# Altium footprint library PCB封装.PcbLib: 59 footprints (part 3 of 4)
Each footprint in its own frame and in the unit in brackets; x right, y up, seen from the top. Pads: shape width x height; smd on the part's side, far side on the other; paste and mask are expansions set on the pad; w line width, h text height; cw(c..) or ccw(c..) is an arc to the next point about the centre after c.
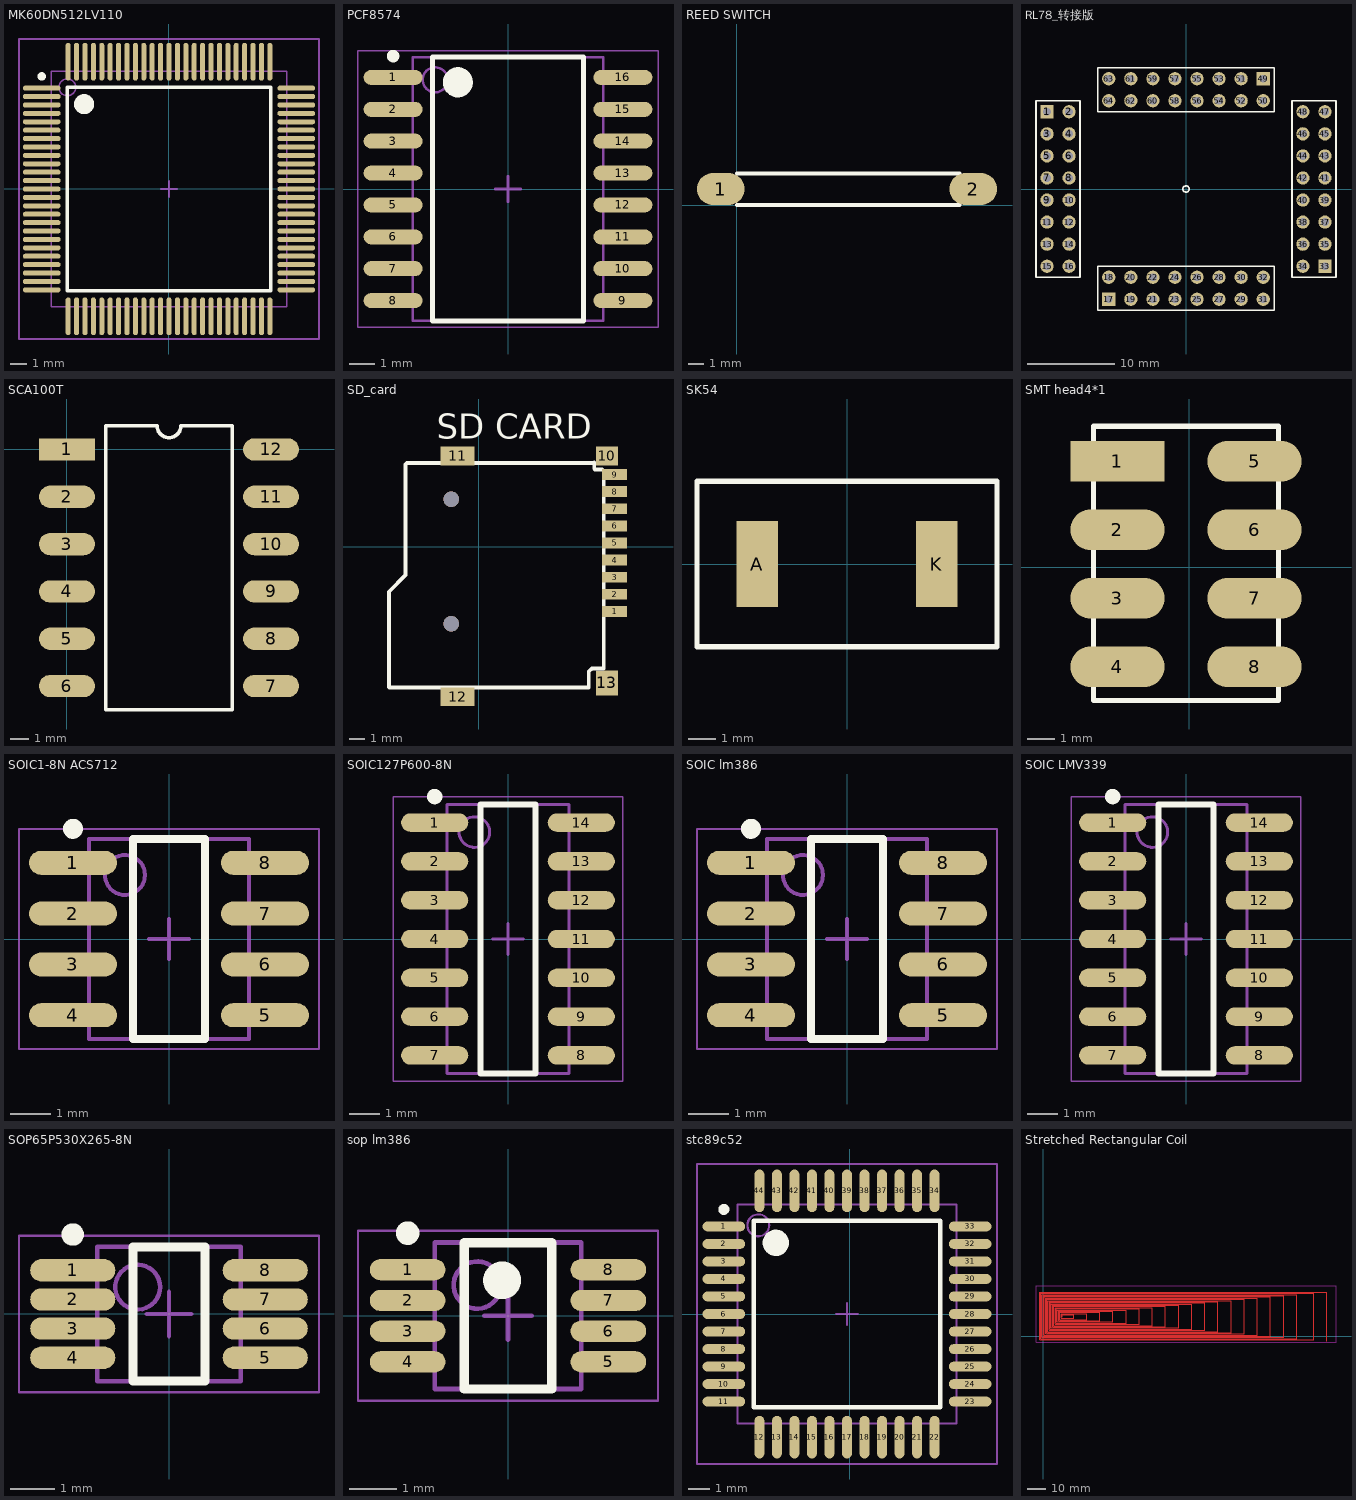
[diagram p2: the footprints below, top view; thin cyan lines are the x and y axes]

## MK60DN512LV110 [mm]
pads (100):
  oval 2.25x0.3 smd: 1(-7.575,6) 2(-7.575,5.5) 3(-7.575,5) 4(-7.575,4.5) 5(-7.575,4) 6(-7.575,3.5) 7(-7.575,3) 8(-7.575,2.5) 9(-7.575,2) 10(-7.575,1.5) 11(-7.575,1) 12(-7.575,0.5) 13(-7.575,0) 14(-7.575,-0.5) 15(-7.575,-1) 16(-7.575,-1.5) 17(-7.575,-2) 18(-7.575,-2.5) 19(-7.575,-3) 20(-7.575,-3.5) 21(-7.575,-4) 22(-7.575,-4.5) 23(-7.575,-5) 24(-7.575,-5.5) 25(-7.575,-6) 51(7.575,-6) 52(7.575,-5.5) 53(7.575,-5) 54(7.575,-4.5) 55(7.575,-4) 56(7.575,-3.5) 57(7.575,-3) 58(7.575,-2.5) 59(7.575,-2) 60(7.575,-1.5) 61(7.575,-1) 62(7.575,-0.5) 63(7.575,0) 64(7.575,0.5) 65(7.575,1) 66(7.575,1.5) 67(7.575,2) 68(7.575,2.5) 69(7.575,3) 70(7.575,3.5) 71(7.575,4) 72(7.575,4.5) 73(7.575,5) 74(7.575,5.5) 75(7.575,6)
  oval 0.3x2.25 smd: 26(-6,-7.575) 27(-5.5,-7.575) 28(-5,-7.575) 29(-4.5,-7.575) 30(-4,-7.575) 31(-3.5,-7.575) 32(-3,-7.575) 33(-2.5,-7.575) 34(-2,-7.575) 35(-1.5,-7.575) 36(-1,-7.575) 37(-0.5,-7.575) 38(0,-7.575) 39(0.5,-7.575) 40(1,-7.575) 41(1.5,-7.575) 42(2,-7.575) 43(2.5,-7.575) 44(3,-7.575) 45(3.5,-7.575) 46(4,-7.575) 47(4.5,-7.575) 48(5,-7.575) 49(5.5,-7.575) 50(6,-7.575) 76(6,7.575) 77(5.5,7.575) 78(5,7.575) 79(4.5,7.575) 80(4,7.575) 81(3.5,7.575) 82(3,7.575) 83(2.5,7.575) 84(2,7.575) 85(1.5,7.575) 86(1,7.575) 87(0.5,7.575) 88(0,7.575) 89(-0.5,7.575) 90(-1,7.575) 91(-1.5,7.575) 92(-2,7.575) 93(-2.5,7.575) 94(-3,7.575) 95(-3.5,7.575) 96(-4,7.575) 97(-4.5,7.575) 98(-5,7.575) 99(-5.5,7.575) 100(-6,7.575)
Top Overlay:
  circle w0.6: c-5.05,5.05 r0.3
  circle w0.25: c-7.575,6.7 r0.125
  lines w0.2: -6.05,-6.05 6.05,-6.05 6.05,6.05 -6.05,6.05 -6.05,-6.05
Mechanical 13:
  circle w0.1: c-6.05,6.05 r0.5
  lines w0.1: -7,-7 7,-7 7,7 -7,7 -7,-7
Mechanical 15:
  lines w0.1: -0.5,0 0.5,0 ; 0,-0.5 0,0.5 ; -8.925,-8.925 8.925,-8.925 8.925,8.925 -8.925,8.925 -8.925,-8.925
3D body: height 1.5, standoff 0.25, extent -7,-7 7,7

## PCF8574 [mm] "PCF8574"
height 2.65
pads (16):
  oval 2.35x0.6 smd: 1(-4.575,4.445) 2(-4.575,3.175) 3(-4.575,1.905) 4(-4.575,0.635) 5(-4.575,-0.635) 6(-4.575,-1.905) 7(-4.575,-3.175) 8(-4.575,-4.445) 9(4.575,-4.445) 10(4.575,-3.175) 11(4.575,-1.905) 12(4.575,-0.635) 13(4.575,0.635) 14(4.575,1.905) 15(4.575,3.175) 16(4.575,4.445)
Top Overlay:
  circle w0.25: c-4.575,5.295 r0.125
  circle w0.6: c-2,4.25 r0.3
  lines w0.2: -3,-5.25 -3,5.25 3,5.25 3,-5.25 -3,-5.25
Mechanical 13:
  circle w0.1: c-2.9,4.35 r0.5
  lines w0.1: -3.8,-5.25 -3.8,5.25 3.8,5.25 3.8,-5.25 -3.8,-5.25
Mechanical 15:
  lines w0.05: -5.975,-5.5 -5.975,5.5 5.975,5.5 5.975,-5.5 -5.975,-5.5
  lines w0.1: -0.5,0 0.5,0 ; 0,-0.5 0,0.5
3D body: height 2.65, standoff 0.25, extent -3.8,-5.25 3.8,5.25

## REED SWITCH [mm]
height 2
pads (2):
  oval 3x2 smd: 1(-1.016,1.016) 2(14.859,1.016)
Top Overlay:
  lines w0.245: 0,0 14,0 ; 0,2 14,2

## RL78_转接版 [mil]
height 393.7
pads (64):
  rect 60x60 hole 35: 1(-630,350) 17(-350,-500) 33(630,-350) 49(350,500)
  round 60 hole 35: 2(-530,350) 3(-630,250) 4(-530,250) 5(-630,150) 6(-530,150) 7(-630,50) 8(-530,50) 9(-630,-50) 10(-530,-50) 11(-630,-150) 12(-530,-150) 13(-630,-250) 14(-530,-250) 15(-630,-350) 16(-530,-350) 18(-350,-400) 19(-250,-500) 20(-250,-400) 21(-150,-500) 22(-150,-400) 23(-50,-500) 24(-50,-400) 25(50,-500) 26(50,-400) 27(150,-500) 28(150,-400) 29(250,-500) 30(250,-400) 31(350,-500) 32(350,-400) 34(530,-350) 35(630,-250) 36(530,-250) 37(630,-150) 38(530,-150) 39(630,-50) 40(530,-50) 41(630,50) 42(530,50) 43(630,150) 44(530,150) 45(630,250) 46(530,250) 47(630,350) 48(530,350) 50(350,400) 51(250,500) 52(250,400) 53(150,500) 54(150,400) 55(50,500) 56(50,400) 57(-50,500) 58(-50,400) 59(-150,500) 60(-150,400) 61(-250,500) 62(-250,400) 63(-350,500) 64(-350,400)
Top Overlay:
  circle w6: c0,0 r14.14
  lines w7.87: -680,400 -680,-400 -480,-400 -480,400 -678.04,400 ; -400,-550 400,-550 400,-350 -400,-350 -400,-548.04 ; 400,548.04 400,350 -400,350 -400,550 400,550 ; 678.04,-400 480,-400 480,400 680,400 680,-400

## SCA100T [mm]
pads (12):
  rect 3x1.2 smd: 1(0,0)
  oval 3x1.2 smd: 2(0,-2.54) 3(0,-5.08) 4(0,-7.62) 5(0,-10.16) 6(0,-12.7) 7(10.96,-12.7) 8(10.96,-10.16) 9(10.96,-7.62) 10(10.96,-5.08) 11(10.96,-2.54) 12(10.96,0)
Top Overlay:
  lines w0.2: 2.085,-13.97 8.875,-13.97 8.875,1.27 6.115,1.27 cw(c5.48,1.27) 4.845,1.27 2.085,1.27 2.085,-13.97

## SD_card [mm]
height 2
pads (13):
  rect 1.6x0.7 smd: 1(8.732,-4.16) 2(8.732,-3.06) 3(8.732,-1.96) 4(8.732,-0.86) 5(8.732,0.24) 6(8.732,1.34) 7(8.732,2.44) 8(8.732,3.54) 9(8.732,4.64)
  rect 1.4x1.2 smd: 10(8.232,5.84)
  rect 2.2x1.2 smd: 11(-1.368,5.84) 12(-1.368,-9.66)
  rect 1.4x1.6 smd: 13(8.232,-8.76)
via -1.768,3.04 diameter 1 hole 1
via -1.768,-4.96 diameter 1 hole 1
Top Overlay:
  lines w0.254: -5.788,-9.041 -5.788,-2.898 -4.721,-1.831 -4.721,5.281 -4.62,5.382 7.369,5.382 7.42,5.433 7.42,5.027 7.471,4.976 7.928,4.976 8.03,4.874 8.03,-7.826 7.268,-7.826 7.064,-8.029 7.064,-9.045 -5.768,-9.045
  text "SD CARD" at -2.714,6.937 h1.6

## SK54 [mm]
pads (2):
  rect 1.52x3.18 smd: A(-3.305,0) K(3.305,0)
Top Overlay:
  lines w0.2: -5.515,-3.04 5.515,-3.04 5.515,3.04 -5.515,3.04 -5.515,0 -5.515,-3.04

## SMT head4*1 [mm]
pads (8):
  rect 3.5x1.5 smd: 1(-2.667,3.937)
  oval 3.5x1.5 smd: 2(-2.667,1.397) 3(-2.667,-1.143) 4(-2.667,-3.683) 5(2.413,3.937) 6(2.413,1.397) 7(2.413,-1.143) 8(2.413,-3.683)
Top Overlay:
  lines w0.2: -3.556,-4.932 3.302,-4.932 3.302,5.228 -3.556,5.228 -3.556,-4.932

## SOIC1-8N ACS712 [mm]
height 1.75
pads (8):
  oval 2.2x0.6 smd: 1(-2.4,1.905) 2(-2.4,0.635) 3(-2.4,-0.635) 4(-2.4,-1.905) 5(2.4,-1.905) 6(2.4,-0.635) 7(2.4,0.635) 8(2.4,1.905)
Top Overlay:
  circle w0.25: c-2.4,2.755 r0.125
  lines w0.2: -0.9,-2.5 0.9,-2.5 0.9,2.5 -0.9,2.5 -0.9,-2.5
Mechanical 13:
  circle w0.1: c-1.1,1.6 r0.5
  lines w0.1: -2,-2.5 2,-2.5 2,2.5 -2,2.5 -2,-2.5
Mechanical 15:
  lines w0.05: -3.75,-2.75 3.75,-2.75 3.75,2.75 -3.75,2.75 -3.75,-2.75
  lines w0.1: -0.5,0 0.5,0 ; 0,-0.5 0,0.5
3D body: height 1.75, standoff 0.25, extent -2,-2.5 2,2.5

## SOIC127P600-8N [mm]
height 1.75
pads (14):
  oval 2.2x0.6 smd: 1(-2.4,3.81) 2(-2.4,2.54) 3(-2.4,1.27) 4(-2.4,0) 5(-2.4,-1.27) 6(-2.4,-2.54) 7(-2.4,-3.81) 8(2.4,-3.81) 9(2.4,-2.54) 10(2.4,-1.27) 11(2.4,0) 12(2.4,1.27) 13(2.4,2.54) 14(2.4,3.81)
Top Overlay:
  circle w0.25: c-2.4,4.66 r0.125
  lines w0.2: -0.9,-4.4 -0.9,4.4 0.9,4.4 0.9,-4.4 -0.9,-4.4
Mechanical 13:
  circle w0.1: c-1.1,3.5 r0.5
  lines w0.1: -2,-4.4 -2,4.4 2,4.4 2,-4.4 -2,-4.4
Mechanical 15:
  lines w0.05: -3.75,-4.65 -3.75,4.65 3.75,4.65 3.75,-4.65 -3.75,-4.65
  lines w0.1: -0.5,0 0.5,0 ; 0,-0.5 0,0.5
3D body: height 1.75, standoff 0.25, extent -2,-4.4 2,4.4

## SOIC lm386 [mm] "SOIC, 8-Leads, Body 4.90x3.90mm, Pitch 1.27mm, IPC Medium Density"
height 1.75
pads (8):
  oval 2.2x0.6 smd: 1(-2.4,1.905) 2(-2.4,0.635) 3(-2.4,-0.635) 4(-2.4,-1.905) 5(2.4,-1.905) 6(2.4,-0.635) 7(2.4,0.635) 8(2.4,1.905)
Top Overlay:
  circle w0.25: c-2.4,2.755 r0.125
  lines w0.2: -0.9,-2.5 0.9,-2.5 0.9,2.5 -0.9,2.5 -0.9,-2.5
Mechanical 13:
  circle w0.1: c-1.1,1.6 r0.5
  lines w0.1: -2,-2.5 2,-2.5 2,2.5 -2,2.5 -2,-2.5
Mechanical 15:
  lines w0.05: -3.75,-2.75 3.75,-2.75 3.75,2.75 -3.75,2.75 -3.75,-2.75
  lines w0.1: -0.5,0 0.5,0 ; 0,-0.5 0,0.5
3D body: height 1.75, standoff 0.25, extent -2,-2.5 2,2.5

## SOIC LMV339 [mm]
height 1.75
pads (14):
  oval 2.2x0.6 smd: 1(-2.4,3.81) 2(-2.4,2.54) 3(-2.4,1.27) 4(-2.4,0) 5(-2.4,-1.27) 6(-2.4,-2.54) 7(-2.4,-3.81) 8(2.4,-3.81) 9(2.4,-2.54) 10(2.4,-1.27) 11(2.4,0) 12(2.4,1.27) 13(2.4,2.54) 14(2.4,3.81)
Top Overlay:
  circle w0.25: c-2.4,4.66 r0.125
  lines w0.2: -0.9,-4.4 0.9,-4.4 0.9,4.4 -0.9,4.4 -0.9,-4.4
Mechanical 13:
  circle w0.1: c-1.1,3.5 r0.5
  lines w0.1: -2,-4.4 2,-4.4 2,4.4 -2,4.4 -2,-4.4
Mechanical 15:
  lines w0.05: -3.75,-4.65 3.75,-4.65 3.75,4.65 -3.75,4.65 -3.75,-4.65
  lines w0.1: -0.5,0 0.5,0 ; 0,-0.5 0,0.5
3D body: height 1.75, standoff 0.25, extent -2,-4.4 2,4.4

## SOP65P530X265-8N [mm] "SOP, 8-Leads, Body 3.00x3.20mm, Pitch 0.65mm, IPC Medium Density"
height 2.65
pads (8):
  oval 1.9x0.5 smd: 1(-2.15,0.975) 2(-2.15,0.325) 3(-2.15,-0.325) 4(-2.15,-0.975) 5(2.15,-0.975) 6(2.15,-0.325) 7(2.15,0.325) 8(2.15,0.975)
Top Overlay:
  circle w0.25: c-2.15,1.775 r0.125
  lines w0.2: -0.8,-1.5 0.8,-1.5 0.8,1.5 -0.8,1.5 -0.8,-1.5
Keep-Out Layer:
  text "该封装不可靠" at -3.048,-3.048 h1.27
Mechanical 13:
  circle w0.1: c-0.7,0.6 r0.5
  lines w0.1: -1.6,-1.5 1.6,-1.5 1.6,1.5 -1.6,1.5 -1.6,-1.5
Mechanical 15:
  lines w0.05: -3.35,-1.75 3.35,-1.75 3.35,1.75 -3.35,1.75 -3.35,-1.75
  lines w0.1: -0.5,0 0.5,0 ; 0,-0.5 0,0.5
3D body: height 2.65, standoff 0.1, extent -1.6,-1.5 1.6,1.5

## sop lm386 [mm] "TSOP, 8-Leads, Body 3.00x3.00mm, Pitch 0.65mm, IPC Medium Density"
height 1.1
pads (8):
  oval 1.6x0.45 smd: 1(-2.125,0.975) 2(-2.125,0.325) 3(-2.125,-0.325) 4(-2.125,-0.975) 5(2.125,-0.975) 6(2.125,-0.325) 7(2.125,0.325) 8(2.125,0.975)
Top Overlay:
  circle w0.25: c-2.125,1.75 r0.125
  circle w0.4: c-0.125,0.75 r0.2
  lines w0.2: -0.925,-1.55 -0.925,1.55 0.925,1.55 0.925,-1.55 -0.925,-1.55
Mechanical 13:
  circle w0.1: c-0.65,0.65 r0.5
  lines w0.1: -1.55,-1.55 -1.55,1.55 1.55,1.55 1.55,-1.55 -1.55,-1.55
Mechanical 15:
  lines w0.05: -3.175,-1.8 -3.175,1.8 3.175,1.8 3.175,-1.8 -3.175,-1.8
  lines w0.1: -0.5,0 0.5,0 ; 0,-0.5 0,0.5
3D body: height 1.1, standoff 0.1, extent -1.55,-1.55 1.55,1.55

## stc89c52 [mm]
pads (44):
  oval 1.95x0.45 smd: 1(-5.752,4) 2(-5.752,3.2) 3(-5.752,2.4) 4(-5.752,1.6) 5(-5.752,0.8) 6(-5.752,0) 7(-5.752,-0.8) 8(-5.752,-1.6) 9(-5.752,-2.4) 10(-5.752,-3.2) 11(-5.752,-4) 23(5.498,-4) 24(5.498,-3.2) 25(5.498,-2.4) 26(5.498,-1.6) 27(5.498,-0.8) 28(5.498,0) 29(5.498,0.8) 30(5.498,1.6) 31(5.498,2.4) 32(5.498,3.2) 33(5.498,4)
  oval 0.45x1.95 smd: 12(-4.127,-5.625) 13(-3.327,-5.625) 14(-2.527,-5.625) 15(-1.727,-5.625) 16(-0.927,-5.625) 17(-0.127,-5.625) 18(0.673,-5.625) 19(1.473,-5.625) 20(2.273,-5.625) 21(3.073,-5.625) 22(3.873,-5.625) 34(3.873,5.625) 35(3.073,5.625) 36(2.273,5.625) 37(1.473,5.625) 38(0.673,5.625) 39(-0.127,5.625) 40(-0.927,5.625) 41(-1.727,5.625) 42(-2.527,5.625) 43(-3.327,5.625) 44(-4.127,5.625)
Top Overlay:
  circle w0.25: c-5.752,4.775 r0.125
  circle w0.6: c-3.377,3.25 r0.3
  lines w0.2: -4.377,-4.25 -4.377,4.25 4.123,4.25 4.123,-4.25 -4.377,-4.25
Mechanical 13:
  circle w0.1: c-4.177,4.05 r0.5
  lines w0.1: -5.127,-5 -5.127,5 4.873,5 4.873,-5 -5.127,-5
Mechanical 15:
  lines w0.1: -0.627,0 0.373,0 ; -0.127,-0.5 -0.127,0.5 ; -6.977,-6.85 -6.977,6.85 6.723,6.85 6.723,-6.85 -6.977,-6.85
3D body: height 1.6, standoff 0.1, extent -5.127,-5 4.873,5

## Stretched Rectangular Coil [mm]
height 1.6
Top Layer:
  lines w0.381: 10.033,10.16 10.033,11.43 16.063,11.43 16.063,9.525 9.398,9.525 9.398,12.065 23.063,12.065 23.063,8.89 8.763,8.89 8.763,12.7 30.063,12.7 30.063,8.255 8.128,8.255 8.128,13.335 37.063,13.335 37.063,7.62 7.493,7.62 7.493,13.97 44.063,13.97 44.063,6.985 6.858,6.985 6.858,14.605 51.054,14.605 51.054,6.35 6.223,6.35 6.223,15.24 58.063,15.24 58.063,5.715 5.588,5.715 5.588,15.875 65.063,15.875 65.063,5.08 4.953,5.08 4.953,16.51 72.063,16.51 72.063,4.445 4.318,4.445 4.318,17.145 79.063,17.145 79.063,3.81 3.683,3.81 3.683,17.78 86.063,17.78 86.063,3.175 3.048,3.175 3.048,18.415 93.063,18.415 93.063,2.54 2.413,2.54 2.413,19.05 100.063,19.05 100.063,1.905 1.778,1.905 1.778,19.685 107.061,19.685 107.061,1.27 1.143,1.27 1.143,20.32 114.063,20.32 114.063,0.635 0.508,0.635 0.508,20.955 121.063,20.955 121.063,0 -0.127,0 -0.127,21.59 128.063,21.59 128.063,-0.635 -0.762,-0.635 -0.762,22.225 135.063,22.225 135.063,-1.27 -1.397,-1.27 -1.397,22.86 144.063,22.86 144.063,-1.905 -2.032,-1.905 -2.032,23.495 151.063,23.495 151.063,-2.667
Keep-Out Layer:
  lines w0.381: -3.937,26.825 -3.937,-3.175 156.063,-3.175 156.063,26.924 -3.937,26.924